# Altium footprint library AB_SF.PcbLib: 43 footprints (part 1 of 3)
Each footprint in its own frame and in the unit in brackets; x right, y up, seen from the top. Pads: shape width x height; smd on the part's side, far side on the other; paste and mask are expansions set on the pad; w line width, h text height; cw(c..) or ccw(c..) is an arc to the next point about the centre after c.
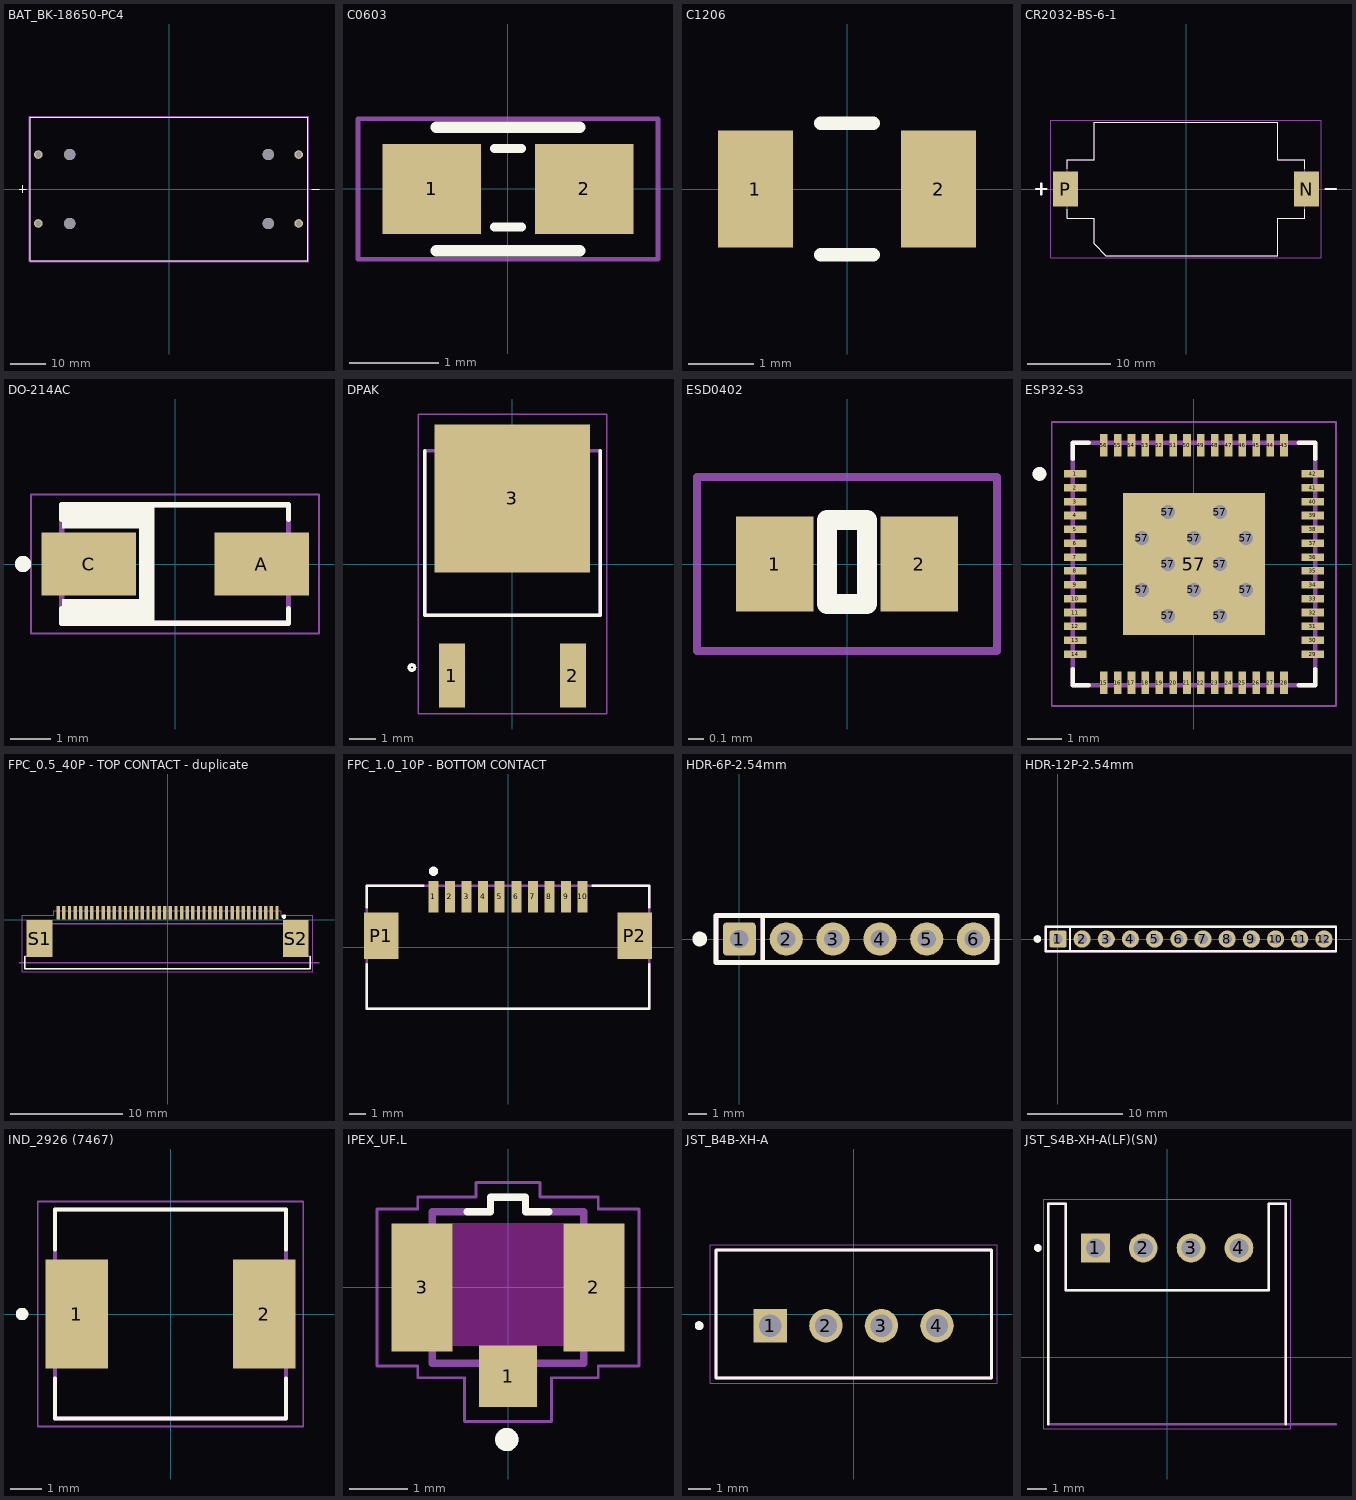
[diagram p0: the footprints below, top view; thin cyan lines are the x and y axes]

## BAT_BK-18650-PC4 [mm]
pads (8):
  round 2.4 hole 1.6: 1+(-36.6,9.65) 1-(36.3,9.65) 2+(-36.6,-9.65) 2-(36.3,-9.65)
  round 3.2 hole 3.2 unplated: ""(-27.81,-9.65) ""(-27.81,9.65) ""(27.81,-9.65) ""(27.81,9.65)
Top Overlay:
  lines w0.127: -42,0 -40,0 ; -41,-1 -41,1 ; 40,0 42,0 ; -38.85,-20.105 -38.85,20.105 38.85,20.105 38.85,-20.105 -38.85,-20.105
Mechanical 13:
  lines w0.127: -42,0 -40,0 ; -41,-1 -41,1 ; 40,0 42,0 ; -38.85,-20.105 -38.85,20.105 38.85,20.105 38.85,-20.105 -38.85,-20.105
Mechanical 15:
  lines w0.05: -39.1,-20.355 -39.1,20.355 39.1,20.355 39.1,-20.355 -39.1,-20.355
3D body "BK-18650-PC4--3DModel-STEP-56544.STEP": height 21.74, standoff -3, extent -38.85,-20.105 38.85,20.105

## C0603 [mm]
pads (2):
  rect 1.1x1 smd: 1(-0.85,0) 2(0.85,0)
Top Overlay:
  lines w0.102: -0.15,-0.425 0.15,-0.425 ; -0.15,0.45 0.15,0.45
  lines w0.127: -0.8,-0.69 0.8,-0.69 ; -0.8,0.69 0.8,0.69
Mechanical 15:
  lines w0.051: -1.673,-0.783 -1.673,0.783 1.673,0.783 1.673,-0.783 -1.673,-0.783
3D body "step_temp.STEP": height 0.81, standoff 0, extent -0.8,-0.45 0.8,0.45

## C1206 [mil] "SOD-323; 2 Leads; Body 2.7 x 1.6 mm, (LxW)"
height 53.15
pads (2):
  rect 45x70 smd: 1(-55,0) 2(55,0)
Top Overlay:
  lines w8: -15.75,-39.53 15.75,-39.53 ; -15.75,39.53 15.75,39.53
3D body "CAPC-1206-T1.4-BN.stp": height 55.12, standoff 0, extent -65.94,-34.44 65.95,34.45

## CR2032-BS-6-1 [mm]
height 5.55
pads (2):
  rect 3x4.2 smd: N(14.5,0) P(-14.5,0)
Top Overlay:
  lines w0.127: -14.25,-2.42 -14.25,-3.5 -11.05,-3.5 -11.05,-6.6 -9.65,-8 11.05,-8 11.05,-3.5 14.25,-3.5 14.25,-2.42 ; -14.25,2.42 -14.25,3.5 -11.05,3.5 -11.05,8 11.05,8 11.05,3.5 14.25,3.5 14.25,2.42
  lines w0.254: -18.034,0 -16.764,0 ; -17.399,-0.635 -17.399,0.635 ; 16.764,0 18.034,0
Mechanical 13:
  lines w0.127: -14.25,-3.5 -11.05,-3.5 -11.05,-6.6 -9.65,-8 11.05,-8 11.05,-3.5 14.25,-3.5 14.25,3.5 11.05,3.5 11.05,8 -11.05,8 -11.05,3.5 -14.25,3.5 -14.25,-3.5
  lines w0.254: -18.034,0 -16.764,0 ; -17.399,-0.635 -17.399,0.635 ; 16.764,0 18.034,0
Mechanical 15:
  lines w0.05: -16.25,-8.25 16.25,-8.25 16.25,8.25 -16.25,8.25 -16.25,-8.25
3D body "step_temp.STEP": height 5.55, standoff 0, extent -15.65,-8 15.65,8

## DO-214AC [mm]
pads (2):
  rect 2.33x1.55 smd: A(2.135,0) C(-2.135,0)
Top Overlay:
  circle w0.2: c-3.75,0 r0.1
  rectangle: -0.889,-1.46 -0.508,1.46
  rectangle: -2.794,0.875 -0.508,1.446
  rectangle: -2.794,-1.432 -0.508,-0.861
  lines w0.127: -2.795,-1.095 -2.795,-1.46 2.795,-1.46 2.795,-1.095 ; -2.795,1.095 -2.795,1.46 2.795,1.46 2.795,1.095
Mechanical 13:
  circle w0.2: c-3.75,0 r0.1
  lines w0.127: -2.795,-1.46 -2.795,1.46 2.795,1.46 2.795,-1.46 -2.795,-1.46
Mechanical 15:
  lines w0.05: -3.55,-1.71 3.55,-1.71 3.55,1.71 -3.55,1.71 -3.55,-1.71
3D body "US1M-13.STEP": height 2.62, standoff 0, extent -2.57,-1.28 2.57,1.28

## DPAK [mm]
pads (3):
  rect 0.98x2.4 smd: 1(-2.28,-4.2) 2(2.28,-4.2)
  rect 5.86x5.57 smd paste-4: 3(0,2.47)
Top Overlay:
  circle w0.127: c-3.786,-3.9 r0.1
  lines w0.127: -3.3,4.27 -3.3,-1.93 3.3,-1.93 3.3,4.27
Mechanical 13:
  circle w0.127: c-3.786,-3.9 r0.1
  lines w0.127: -3.3,-1.93 -3.3,4.27 3.3,4.27 3.3,-1.93 -3.3,-1.93
Mechanical 15:
  lines w0.05: -3.55,-5.65 3.55,-5.65 3.55,5.65 -3.55,5.65 -3.55,-5.65
3D body "step_temp.STEP": height 2.17, standoff -0.23, extent -3.25,-4.743 3.25,4.982

## ESD0402 [mm]
pads (2):
  rect 0.49x0.6 smd: 1(-0.457,0) 2(0.457,0)
Top Overlay:
  lines w0.127: -0.127,-0.254 0.127,-0.254 0.127,0.28 -0.127,0.28 -0.127,-0.254
Mechanical 15:
  lines w0.05: -0.95,-0.55 0.95,-0.55 0.95,0.55 -0.95,0.55 -0.95,-0.55
3D body "PESD0402-140--3DModel-STEP-510211.STEP": height 0.43, standoff 0, extent -0.5,-0.25 0.5,0.25

## ESP32-S3 [mm]
height 0.9
pads (69):
  rect 0.65x0.22 smd mask+0.05: 1(-3.425,2.6) 2(-3.425,2.2) 3(-3.425,1.8) 4(-3.425,1.4) 5(-3.425,1) 6(-3.425,0.6) 7(-3.425,0.2) 8(-3.425,-0.2) 9(-3.425,-0.6) 10(-3.425,-1) 11(-3.425,-1.4) 12(-3.425,-1.8) 13(-3.425,-2.2) 14(-3.425,-2.6) 29(3.425,-2.6) 30(3.425,-2.2) 31(3.425,-1.8) 32(3.425,-1.4) 33(3.425,-1) 34(3.425,-0.6) 35(3.425,-0.2) 36(3.425,0.2) 37(3.425,0.6) 38(3.425,1) 39(3.425,1.4) 40(3.425,1.8) 41(3.425,2.2) 42(3.425,2.6)
  rect 0.22x0.65 smd mask+0.05: 15(-2.6,-3.425) 16(-2.2,-3.425) 17(-1.8,-3.425) 18(-1.4,-3.425) 19(-1,-3.425) 20(-0.6,-3.425) 21(-0.2,-3.425) 22(0.2,-3.425) 23(0.6,-3.425) 24(1,-3.425) 25(1.4,-3.425) 26(1.8,-3.425) 27(2.2,-3.425) 28(2.6,-3.425) 43(2.6,3.425) 44(2.2,3.425) 45(1.8,3.425) 46(1.4,3.425) 47(1,3.425) 48(0.6,3.425) 49(0.2,3.425) 50(-0.2,3.425) 51(-0.6,3.425) 52(-1,3.425) 53(-1.4,3.425) 54(-1.8,3.425) 55(-2.2,3.425) 56(-2.6,3.425)
  round 0.5 hole 0.4 mask+0: 57(-1.5,-0.75) 57(-1.5,0.75) 57(-0.75,-1.5) 57(-0.75,0) 57(-0.75,1.5) 57(0,-0.75) 57(0,0.75) 57(0.75,-1.5) 57(0.75,0) 57(0.75,1.5) 57(1.5,-0.75) 57(1.5,0.75)
  rect 4.1x4.1 smd paste-1.55: 57(0,0)
Top Overlay:
  circle w0.2: c-4.455,2.6 r0.1
  lines w0.127: -3.5,-3.03 -3.5,-3.5 -3.03,-3.5 ; -3.5,3.03 -3.5,3.5 -3.03,3.5 ; 3.03,-3.5 3.5,-3.5 3.5,-3.03 ; 3.03,3.5 3.5,3.5 3.5,3.03
Top Paste:
  region: -1,1 -2,1 -2,2 -1,2
  region: -1,-0.5 -2,-0.5 -2,0.5 -1,0.5
  region: -1,-2 -2,-2 -2,-1 -1,-1
  region: 0.5,-2 -0.5,-2 -0.5,-1 0.5,-1
  region: 2,-2 1,-2 1,-1 2,-1
  region: 2,-0.5 1,-0.5 1,0.5 2,0.5
  region: 2,1 1,1 1,2 2,2
  region: 0.5,1 -0.5,1 -0.5,2 0.5,2
Mechanical 13:
  circle w0.2: c-4.455,2.6 r0.1
  lines w0.127: -3.5,-3.5 -3.5,3.5 3.5,3.5 3.5,-3.5 -3.5,-3.5
Mechanical 15:
  lines w0.05: -4.1,-4.1 -4.1,4.1 4.1,4.1 4.1,-4.1 -4.1,-4.1
3D body "step_temp.STEP": height 0.9, standoff 0, extent -3.5,-3.5 3.5,3.5

## FPC_0.5_40P - TOP CONTACT - duplicate [mm]
pads (42):
  rect 0.3x1.2 smd: 1(9.75,0.6) 2(9.25,0.6) 3(8.75,0.6) 4(8.25,0.6) 5(7.75,0.6) 6(7.25,0.6) 7(6.75,0.6) 8(6.25,0.6) 9(5.75,0.6) 10(5.25,0.6) 11(4.75,0.6) 12(4.25,0.6) 13(3.75,0.6) 14(3.25,0.6) 15(2.75,0.6) 16(2.25,0.6) 17(1.75,0.6) 18(1.25,0.6) 19(0.75,0.6) 20(0.25,0.6) 21(-0.25,0.6) 22(-0.75,0.6) 23(-1.25,0.6) 24(-1.75,0.6) 25(-2.25,0.6) 26(-2.75,0.6) 27(-3.25,0.6) 28(-3.75,0.6) 29(-4.25,0.6) 30(-4.75,0.6) 31(-5.25,0.6) 32(-5.75,0.6) 33(-6.25,0.6) 34(-6.75,0.6) 35(-7.25,0.6) 36(-7.75,0.6) 37(-8.25,0.6) 38(-8.75,0.6) 39(-9.25,0.6) 40(-9.75,0.6)
  rect 2.3x3.3 smd: S1(-11.42,-1.7) S2(11.42,-1.7)
Top Overlay:
  circle w0.2: c10.375,0.277 r0.1
  lines w0.127: -12.715,-3.25 -12.715,-4.4 12.715,-4.4 12.715,-3.25
Mechanical 13:
  lines w0.127: -13.25,-3.85 13.5,-3.85 ; -12.715,-4.4 -12.715,-3.25 -12.06,-3.25 -12.06,-0.35 12.06,-0.35 12.06,-3.25 12.715,-3.25 12.715,-4.4 -12.715,-4.4
  text "PCB Edge" at 13.776,-3.757 h1.27
Mechanical 15:
  lines w0.05: -12.965,-4.65 12.965,-4.65 12.965,0.4 10.15,0.4 10.15,0.8 -10.15,0.8 -10.15,0.4 -12.965,0.4 -12.965,-4.65
3D body "4-1734839-0.stp": height 2.05, standoff 0, extent -12.715,-4.71 12.715,0.4

## FPC_1.0_10P - BOTTOM CONTACT [mm]
pads (12):
  rect 0.6x1.9 smd: 1(-4.5,3.05) 2(-3.5,3.05) 3(-2.5,3.05) 4(-1.5,3.05) 5(-0.5,3.05) 6(0.5,3.05) 7(1.5,3.05) 8(2.5,3.05) 9(3.5,3.05) 10(4.5,3.05)
  rect 2.1x2.8 smd: P1(-7.65,0.7) P2(7.65,0.7)
Top Overlay:
  circle w0.305: c-4.5,4.6 r0.127
  lines w0.152: -8.509,-1.016 -8.509,-3.708 8.509,-3.708 8.509,-1.016 ; -8.509,2.413 -8.509,3.708 -5.105,3.708 ; 5.105,3.708 8.509,3.708 8.509,2.413
Mechanical 13:
  lines w0.152: -8.509,-3.708 8.509,-3.708 8.509,3.708 -8.509,3.708 -8.509,-3.708
3D body "FFC3B07-10-T--3DModel-STEP-56544.STEP": height 2.5, standoff 0, extent -8.5,-3.25 8.5,3.5

## HDR-6P-2.54mm [mm] "PinHeader 1x6 TH Pitch 2.54mm"
height 9.5
pads (6):
  rrect25% 1.8x1.8 hole 1: 1(0,0)
  round 1.8 hole 1: 2(2.54,0) 3(5.08,0) 4(7.62,0) 5(10.16,0) 6(12.7,0)
Top Overlay:
  circle w0.5: c-2.15,0 r0.15
  lines w0.254: 1.27,-1.27 1.27,1.27 -1.27,1.27 ; -1.27,1.27 -1.27,-1.27 13.97,-1.27 13.97,1.27 -1.27,1.27
Mechanical 3:
  lines w0.254: 1.27,-1.27 1.27,1.27 -1.27,1.27 ; -1.27,1.27 -1.27,-1.27 13.97,-1.27 13.97,1.27 -1.27,1.27
3D body "Pin Header 1x6 TH Pitch 2.54mm.stp": height 9.5, standoff -3.2, extent -1.27,-1.27 13.97,1.27

## HDR-12P-2.54mm [mm] "PinHeader 1x12 TH Pitch 2.54mm"
height 9.5
pads (12):
  rrect25% 1.8x1.8 hole 1: 1(0,0)
  round 1.8 hole 1: 2(2.54,0) 3(5.08,0) 4(7.62,0) 5(10.16,0) 6(12.7,0) 7(15.24,0) 8(17.78,0) 9(20.32,0) 10(22.86,0) 11(25.4,0) 12(27.94,0)
Top Overlay:
  circle w0.5: c-2.15,0 r0.15
  lines w0.254: 1.27,-1.27 1.27,1.27 -1.27,1.27 ; -1.27,1.27 29.21,1.27 29.21,-1.27 -1.27,-1.27 -1.27,1.27
Mechanical 3:
  lines w0.254: 1.27,-1.27 1.27,1.27 -1.27,1.27 ; -1.27,1.27 29.21,1.27 29.21,-1.27 -1.27,-1.27 -1.27,1.27
3D body: height 9.5, standoff -3.2, extent -1.27,-1.27 29.21,1.27

## IND_2926 (7467) [mm]
pads (2):
  rect 2x3.5 smd: 1(-3,0) 2(3,0)
Top Overlay:
  circle w0.2: c-4.75,0 r0.1
  lines w0.127: -3.7,-2.064 -3.7,-3.35 3.7,-3.35 3.7,-2.064 ; -3.7,2.064 -3.7,3.35 3.7,3.35 3.7,2.064
Mechanical 13:
  circle w0.2: c-4.75,0 r0.1
  lines w0.127: -3.7,-3.35 3.7,-3.35 3.7,3.35 -3.7,3.35 -3.7,-3.35
Mechanical 15:
  lines w0.05: -4.25,-3.6 -4.25,3.6 4.25,3.6 4.25,-3.6 -4.25,-3.6
3D body "FDVE0630-H-100M=P3--3DModel-STEP-46669.STEP": height 3, standoff 0, extent -3.7,-3.35 3.7,3.35

## IPEX_UF.L [mm]
height 1.25
pads (3):
  rect 1x1.05 smd: 1(0,-1.525)
  rect 1.05x2.2 smd: 2(1.475,0) 3(-1.475,0)
Top Overlay:
  circle w0.2: c-0.02,-2.61 r0.1
  lines w0.127: -0.7,1.3 -0.3,1.3 -0.3,1.55 0.3,1.55 0.3,1.3 0.7,1.3
Keep-Out Layer:
  region: 0.95,-1 -0.95,-1 -0.95,1.1 0.95,1.1
Mechanical 13:
  circle w0.2: c-0.02,-2.61 r0.1
  lines w0.127: -1.5,-0.9 -1.5,0.9 -1.3,0.9 -1.3,1.3 -0.3,1.3 -0.3,1.55 0.3,1.55 0.3,1.3 1.3,1.3 1.3,0.9 1.5,0.9 1.5,-0.9 1.3,-0.9 1.3,-1.3 0.3,-1.3 0.3,-1.55 -0.3,-1.55 -0.3,-1.3 -1.3,-1.3 -1.3,-0.9 -1.5,-0.9
Mechanical 15:
  lines w0.05: -2.25,-1.35 -1.55,-1.35 -1.55,-1.55 -0.75,-1.55 -0.75,-2.3 0.75,-2.3 0.75,-1.55 1.55,-1.55 1.55,-1.35 2.25,-1.35 2.25,1.35 1.55,1.35 1.55,1.55 0.55,1.55 0.55,1.8 -0.55,1.8 -0.55,1.55 -1.55,1.55 -1.55,1.35 -2.25,1.35 -2.25,-1.35
3D body "step_temp.STEP": height 1.25, standoff 0, extent -1.5,-1.55 1.5,1.55

## JST_B4B-XH-A [mm]
height 7
pads (4):
  rect 1.508x1.508 / inner round 1.508 / far side rect 1.508x1.508 hole 1: 1(-3.75,-0.525)
  round 1.508 hole 1: 2(-1.25,-0.525) 3(1.25,-0.525) 4(3.75,-0.525)
Top Overlay:
  circle w0.2: c-6.95,-0.525 r0.1
  lines w0.127: -6.2,-2.875 6.2,-2.875 6.2,2.875 -6.2,2.875 -6.2,-2.875
Mechanical 13:
  circle w0.2: c-6.95,-0.525 r0.1
  lines w0.127: -6.2,-2.875 6.2,-2.875 6.2,2.875 -6.2,2.875 -6.2,-2.875
Mechanical 15:
  lines w0.05: -6.45,-3.125 -6.45,3.125 6.45,3.125 6.45,-3.125 -6.45,-3.125
3D body "step_temp.STEP": height 7, standoff -3.4, extent -6.2,-2.875 6.2,2.875

## JST_S4B-XH-A(LF)(SN) [mm]
pads (4):
  rect 1.508x1.508 / inner round 1.508 / far side rect 1.508x1.508 hole 1: 1(-3.75,5.7)
  round 1.508 hole 1: 2(-1.25,5.7) 3(1.25,5.7) 4(3.75,5.7)
Top Overlay:
  circle w0.2: c-6.75,5.7 r0.1
  lines w0.127: -6.2,-3.5 -6.2,8 -5.3,8 -5.3,3.5 5.3,3.5 5.3,8 6.2,8 6.2,-3.5
Mechanical 13:
  circle w0.2: c-6.75,5.7 r0.1
  lines w0.127: 8.82,-3.5 6.2,-3.5 ; 6.2,-3.5 6.2,8 5.3,8 5.3,3.5 -5.3,3.5 -5.3,8 -6.2,8 -6.2,-3.5 6.2,-3.5
  text "PCB Edge" at 6.667,-3.203 h0.81
Mechanical 15:
  lines w0.05: -6.45,-3.75 6.45,-3.75 6.45,8.25 -6.45,8.25 -6.45,-3.75
3D body "step_temp.STEP": height 6.15, standoff -3.4, extent -6.2,-3.499 6.2,8.001